# Altium footprint library Diode_Bridges.PcbLib: 6 footprints
Each footprint in its own frame and in the unit in brackets; x right, y up, seen from the top. Pads: shape width x height; smd on the part's side, far side on the other; paste and mask are expansions set on the pad; w line width, h text height; cw(c..) or ccw(c..) is an arc to the next point about the centre after c.
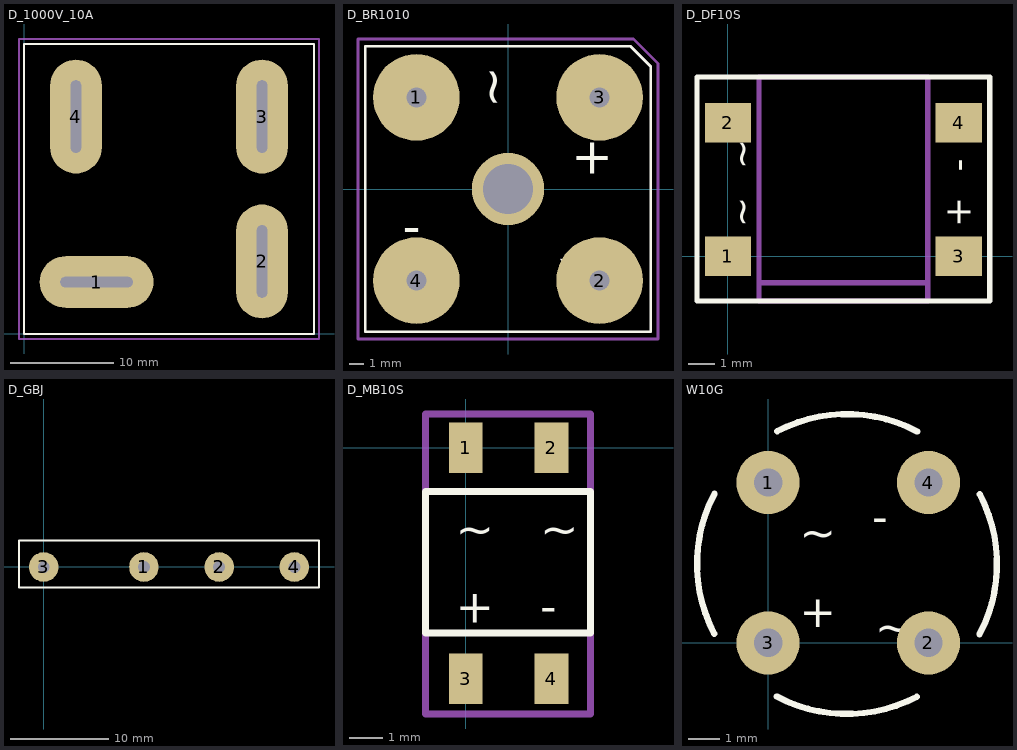
[diagram p0: the footprints below, top view; thin cyan lines are the x and y axes]

## D_1000V_10A [mm]
pads (4):
  oval 11x5 hole 1 slot 7 at 0 deg: 1(7,5)
  oval 5x11 hole 1 slot 7 at 90 deg: 2(23,7) 3(23,21) 4(5,21)
Top Overlay:
  lines w0.2: 0,0 28,0 28,28 0,28 0,0
Mechanical 15:
  lines w0.2: -0.5,-0.5 -0.5,28.5 28.5,28.5 28.5,-0.5 -0.5,-0.5

## D_BR1010 [mm]
height 7.1
pads (5):
  round 6 hole 1.4: 1(-6.35,6.35) 2(6.35,-6.35) 3(6.35,6.35) 4(-6.35,-6.35)
  round 5 hole 3.5: ""(0,0)
Top Overlay:
  lines w0.2: -9.9,-9.9 -9.9,9.9 8.5,9.9 9.9,8.5 9.9,-9.9 -9.9,-9.9
  text "~" at 5,-7.4 h2.52
  text "~" at 0.1,5.6 h2.52
  text "-" at -7.3,-3.8 h2.52
  text "+" at 7.3,3.2 h2.52
Mechanical 15:
  lines w0.2: -10.4,-10.4 10.4,-10.4 10.4,8.7 8.7,10.4 -10.4,10.4 -10.4,-10.4

## D_DF10S [mm]
pads (4):
  rect 1.75x1.5 smd: 1(0,0) 2(0,5.07) 3(8.75,0) 4(8.75,5.07)
Top Overlay:
  lines w0.2: -1.175,-1.7 -1.175,6.8 9.925,6.8 9.925,-1.7 -1.175,-1.7
  text "+" at 9.2,1.1 h1
  text "-" at 9.2,3.2 h1
  text "~" at 1,1.1 h1
  text "~" at 1,3.3 h1
TopAssy:
  lines w0.2: 1.2,-1 7.575,-1 ; 1.175,-1.7 7.575,-1.7 7.575,6.8 1.175,6.8 1.175,-1.7
3D body: height 3.63, standoff 0, extent -0.625,-1.7 9.375,6.8

## D_GBJ [mm]
pads (4):
  round 3 hole 1.2: 1(10.16,0) 2(17.78,0) 3(0,0) 4(25.4,0)
Top Overlay:
  lines w0.2: -2.5,-2.1 27.9,-2.1 27.9,2.7 -2.5,2.7 -2.5,-2.1
3D body: height 23.85, standoff -13.35, extent -2.3,-2.1 27.7,2.7

## D_MB10S [mm]
height 2.7
pads (4):
  rect 1x1.5 smd: 1(0,0) 2(2.54,0) 3(0,-6.85) 4(2.54,-6.85)
Top Overlay:
  lines w0.2: -1.2,-5.5 -1.2,-1.3 3.7,-1.3 3.7,-5.5 -1.2,-5.5
  text "+" at -0.3,-5.2 h1
  text "-" at 2.2,-5.2 h1
  text "~" at -0.3,-2.9 h1
  text "~" at 2.2,-2.9 h1
Mechanical 15:
  lines w0.2: -1.2,-7.9 3.7,-7.9 3.7,1 -1.2,1 -1.2,-7.9
3D body: height 1.55, standoff 0.02, extent -1.247,-7.003 3.747,-0.103

## W10G [mm]
height 2.7
pads (4):
  round 2 hole 0.9: 1(0,5.08) 2(5.08,0) 3(0,0) 4(5.08,5.08)
Top Overlay:
  lines w0.2: -1.703,0.288 cw(c2.5,2.5) -1.698,4.722 ; 0.278,-1.698 ccw(c2.5,2.5) 4.712,-1.703 ; 0.288,6.703 cw(c2.5,2.5) 4.722,6.698 ; 6.698,0.278 ccw(c2.5,2.5) 6.703,4.712
  text "~" at 3.4,0 h1
  text "~" at 1,3 h1
  text "-" at 3.3,3.5 h1
  text "+" at 1,0.5 h1
3D body: height 5.6, standoff -3.5, extent -2.145,-2.15 7.145,7.15